# EAGLE library part MCP1825T-3302E/DC (library catapult_qube)
IC, Low Dropout Regulator, 3.3V, 500MA, SOT-223-5
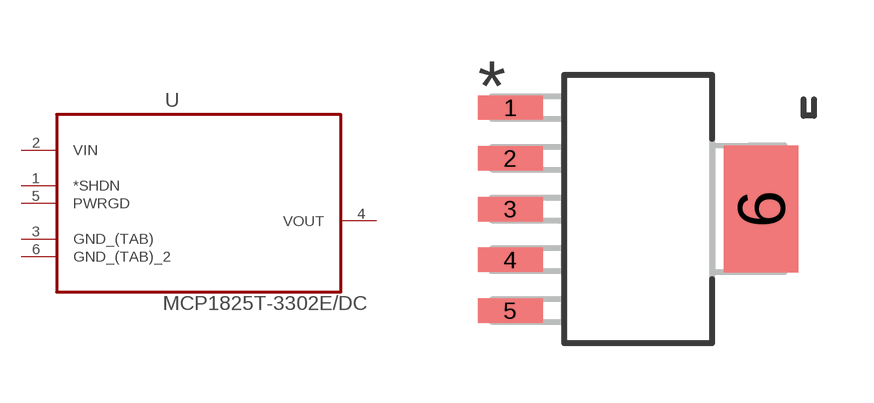
[diagram p0: symbol with the pads of SOT127P700X180-6N; footprint SOT127P700X180-6N]

Designator prefix U

## MCP1825T-3302E/DC (MPN: MCP1825T-3302E/DC; OC_FARNELL: 1578410; OC_NEWARK: 40M0721; PACKAGE: SOT-223-5; SUPPLIER: Microchip)  [SOT127P700X180-6N]
1  *SHDN  in
2  VIN  in
3  GND_(TAB)  pas
4  VOUT  out
5  PWRGD  in
6  GND_(TAB)_2  pas

## Footprint SOT127P700X180-6N (pad centres in mm)
smd 1.626 x 0.61: 1 -3.2,2.54; 2 -3.2,1.27; 3 -3.2,0; 4 -3.2,-1.27; 5 -3.2,-2.54
smd 1.854 x 3.175: 6 3.073,0